# EAGLE library part 16X2LCD (library jasons_stuff)
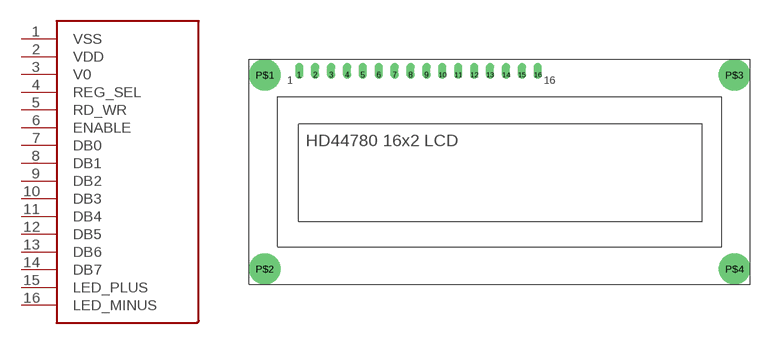
[diagram p44: symbol with the pads of 16X2DISPLAY; footprint 16X2DISPLAY]

Designator prefix -

## 16X2LCD  [16X2DISPLAY]
1  VSS  pwr
2  VDD  pwr
3  V0
4  REG_SEL
5  RD_WR
6  ENABLE
7  DB0
8  DB1
9  DB2
10  DB3
11  DB4
12  DB5
13  DB6
14  DB7
15  LED_PLUS
16  LED_MINUS

## Footprint 16X2DISPLAY (pad centres in mm)
drill 0.8 offset: 1 8,33.49; 2 10.54,33.49; 3 13.08,33.49; 4 15.62,33.49; 5 18.16,33.49; 6 20.7,33.49; 7 23.24,33.49; 8 25.78,33.49; 9 28.32,33.49; 10 30.86,33.49; 11 33.4,33.49; 12 35.94,33.49; 13 38.48,33.49; 14 41.02,33.49; 15 43.56,33.49; 16 46.1,33.49
drill 3 pad 5: P$1 2.5,33.5; P$2 2.5,2.5; P$3 77.5,33.5; P$4 77.5,2.5